# Altium schematic symbol library M.SchLib: 9 symbols
Pins are listed as number, name and electrical type; pins without a type are passive.

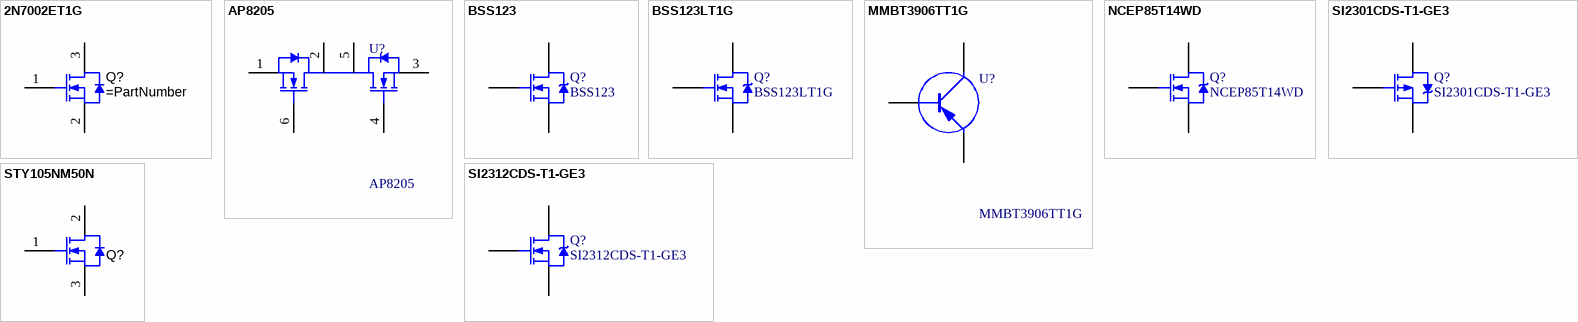
[diagram p0: symbols 2N7002ET1G to STY105NM50N]

## 2N7002ET1G
designator Q?
MOSFET, N-CH, 60V, 0.26A, SOT-23; Manufacturer: ON Semiconductor; Code: 2N7002ET1G; CompType: MOSFET; Package: SOT-23-3
footprint SOT-23 (SOT23, 3-Leads, Body 2.9x1.3mm, Pitch 0.95mm, Lead Span 2.5mm, IPC Medium Density)
pins: 1 G, 2 S, 3 D

## AP8205
designator U?
漏源电压（Vdss） 20V / 连续漏极电流（Id）（25°C 时） 6A / 栅源极阈值电压 1.2V @ 250uA / 漏源导通电阻 24mΩ @ 6A,4.5V / 最大功率耗散（Ta=25°C） 1.14W / 类型 双N沟道(共漏); Manufacturer: ALLPOWER(铨力); CompType: MOS(场效应管); Code: AP8205; DistributorCode: C360340; Package: SOT23-6
footprint DBV0006A_N
pins: 1 S1, 2 D1/D2, 3 S2, 4 G2, 5 D1/D2, 6 G1

## BSS123
designator Q?
漏源电压（Vdss） 100V / 连续漏极电流（Id）（25°C 时） 170mA / 栅源极阈值电压 2V @ 1mA / 漏源导通电阻 6Ω @ 170mA,10V / 最大功率耗散（Ta=25°C） 360mW / 类型 N沟道 /; Manufacturer: CJ（江苏长电/长晶）; CompType: MOS(场效应管); A_Code: -; A_Manufacturer: -; Code: BSS123; DistributorCode: C79015; Package: SOT-23-3; A_ComType: -
footprint SOT-23
pins: 1 G, 2 S, 3 D

## BSS123LT1G
designator Q?
漏源电压（Vdss） 100V / 连续漏极电流（Id）（25°C 时） 170mA / 栅源极阈值电压 2.8V @ 1mA / 漏源导通电阻 6Ω @ 100mA,10V / 最大功率耗散（Ta=25°C） 225mW / 类型 N沟道; Manufacturer: ON(安森美); Code: BSS123; CompType: MOS(场效应管); A_Code: -; A_Manufacturer: -; DistributorCode: C78755; Package: SOT-23-3; A_ComType: -
footprint SOT-23
pins: 1 G, 2 S, 3 D

## MMBT3906TT1G
designator U?
额定功率 200mW / 集电极电流Ic 200mA / 集射极击穿电压Vce 40V / 晶体管类型 PNP; Manufacturer: ON(安森美); Code: MMBT3906TT1G; DistributorCode: C82042; Package: SOT23-3; CompType: PNP
footprint SOT-23(SOT-23-3)
pins: 1 B, 2 E, 3 C

## NCEP85T14WD
designator Q?
漏源电压（Vdss） 85V / 连续漏极电流（Id）（25°C 时） 140A / 栅源极阈值电压 3.1V @ 250uA / 漏源导通电阻 4mΩ @ 70A,10V / 最大功率耗散（Ta=25°C） 360mW / 类型 N沟道 /; Manufacturer: 无锡新洁能; CompType: MOS(场效应管); A_Code: -; A_Manufacturer: -; Code: NCEP85T14WD; DistributorCode: -; Package: TO-263-2L; A_ComType: -
footprint TO-263T-2L (D2-PAK, 3-Pads, Body 7.80x8.50mm (max), IPC Medium Density)
pins: 1 G, 2 S, 3 D

## SI2301CDS-T1-GE3
designator Q?
漏源电压（Vdss） -20V / 连续漏极电流（Id）（25°C 时） 3.1A / 栅源极阈值电压 1V @ 250uA / 漏源导通电阻 112mΩ @ 2.8A,4.5V / 最大功率耗散（Ta=25°C） 860mW / 类型 P沟道; Manufacturer: VISHAY(威世); CompType: MOS(场效应管); A_Code: -; A_Manufacturer: -; Code: SI2301CDS-T1-GE3; DistributorCode: C10487; Package: SOT-23-3; A_ComType: -
footprint SOT-23(SOT-23-3)
pins: 1 G, 2 S, 3 D

## SI2312CDS-T1-GE3
designator Q?
漏源电压（Vdss） 20V / 连续漏极电流（Id）（25°C 时） 6A(Tc) / 栅源极阈值电压 1V @ 250uA / 漏源导通电阻 31.8mΩ @ 5A,4.5V / 最大功率耗散（Ta=25°C） 2.1W(Tc) / 类型 N沟道; Manufacturer: VISHAY(威世); CompType: MOS(场效应管); A_Code: -; A_Manufacturer: -; Code: SI2312CDS-T1-GE3; DistributorCode: C142518; Package: SOT-23-3; A_ComType: -
footprint SOT-23(SOT-23-3)
pins: 1 G, 2 S, 3 D

## STY105NM50N
designator Q?, comment STY145N65M5  (value not drawn)
MOSFET N-CH 650V 138A MAX247; Manufacturer: STMicroelectronics; Alternate Manufacturer: None; U/M: EA; ChType: N; VdsMax_V: 650; Value1: ? ohm; Value2: 326 nC; QgTyp_nC: 326; IdsMax_A: 110; AEC Category: Q101; SymbolVersion: 2008-07-28; CompType: MOSFET; PartNumber: STY145N65M5; PackageReference: TO-247; Value: 650V; RoHS: Y; MountType: TH; Published: 2008-06-19; Publisher: Texas Instruments; LatestRevisionDate: 2016-03-28; LatestRevisionNote: Added parts.; ComponentLink1Description: Datasheet link; Supplier 1: Digi-Key; Supplier Part Number 1: 497-13638-5-ND; AEC Qualified: N
footprint TO-247
pins: 1 G, 2 D, 3 S
1 alternate drawing of the same symbol